# EAGLE library part SN74LVC2G126 (library logic-supply)
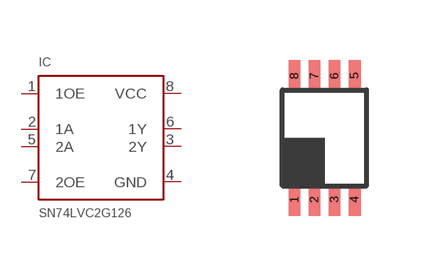
[diagram p10: symbol with the pads of DCU-R-PDSO-G8; footprint DCU-R-PDSO-G8]

Designator prefix IC

## SN74LVC2G126DCU  [DCU-R-PDSO-G8]
1  1OE
2  1A
3  2Y
4  GND
5  2A
6  1Y
7  2OE
8  VCC

## Footprint DCU-R-PDSO-G8 (pad centres in mm)
smd 0.3 x 0.8: 1 -0.75,-1.55; 2 -0.25,-1.55; 3 0.25,-1.55; 4 0.75,-1.55; 5 0.75,1.55; 6 0.25,1.55; 7 -0.25,1.55; 8 -0.75,1.55